# EAGLE library part PTR5618 (library MCUs)
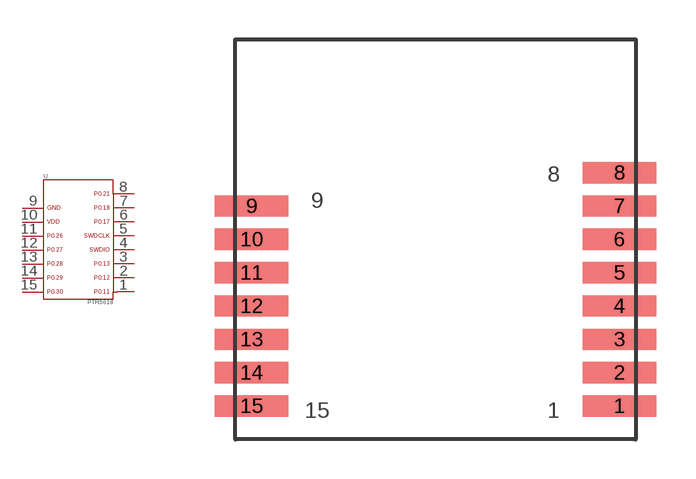
[diagram p6: symbol with the pads of PTR5618; footprint PTR5618]

Designator prefix U

## PTR5618  [PTR5618]
1  1  pas
2  2  pas
3  3  pas
4  4  pas
5  5  pas
6  6  pas
7  7  pas
8  8  pas
9  9  pas
10  10  pas
11  11  pas
12  12  pas
13  13  pas
14  14  pas
15  15  pas

## Footprint PTR5618 (pad centres in mm)
smd 2.794 x 0.813: 1 7,-6.35; 2 7,-5.08; 3 7,-3.81; 4 7,-2.54; 5 7,-1.27; 6 7,0; 7 7,1.27; 8 7,2.54; 9 -7,1.27; 10 -7,0; 11 -7,-1.27; 12 -7,-2.54; 13 -7,-3.81; 14 -7,-5.08; 15 -7,-6.35